# EAGLE library part MCP4142 (library robotter)
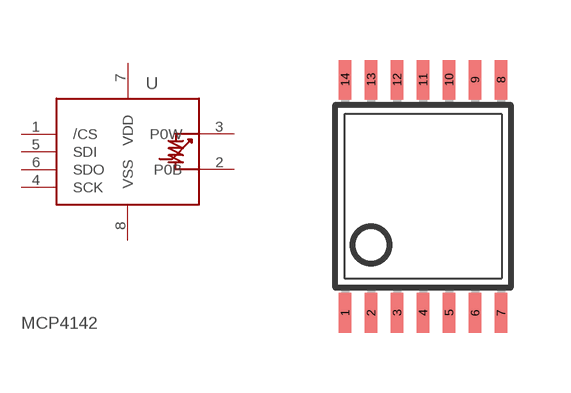
[diagram p2: symbol with the pads of TSSOP14; footprint TSSOP14]

Designator prefix -

## MCP4142  [TSSOP14]
1  /CS
2  P0B
3  P0W
4  SCK
5  SDI
6  SDO
7  VDD  pwr
8  VSS  pwr

## Footprint TSSOP14 (pad centres in mm)
Thin Shrink Small Outline Plastic 16 MAX3223-MAX3243.pdf
smd 0.305 x 0.991: 1 -2.275,-2.918; 2 -1.625,-2.918; 3 -0.975,-2.918; 4 -0.325,-2.918; 5 0.325,-2.918; 6 0.975,-2.918; 7 1.625,-2.918; 8 1.625,2.918; 9 0.975,2.918; 10 0.325,2.918; 11 -0.325,2.918; 12 -0.975,2.918; 13 -1.625,2.918; 14 -2.275,2.918